# EAGLE library part PCA9306DCTR (library SamacSys_Parts)
2-Bit Bidirectional I2C Bus and SMBus Voltage-Level Shifter Source: Datasheet <http://www.ti.com/lit/gpn/pca9306>
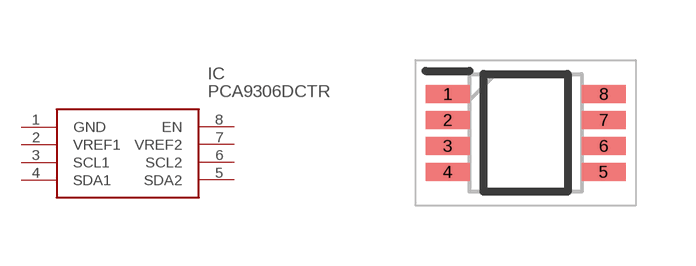
[diagram p102: symbol with the pads of SOP65P400X130-8N; footprint SOP65P400X130-8N]

Designator prefix IC

## PCA9306DCTR (DESCRIPTION: 2-Bit Bidirectional I2C Bus and SMBus Voltage-Level Shifter; HEIGHT: 1.3mm; MANUFACTURER_NAME: Texas Instruments; MANUFACTURER_PART_NUMBER: PCA9306DCTR; MOUSER_PART_NUMBER: 595-PCA9306DCTR; MOUSER_PRICE-STOCK: https://www.mouser.co.uk/ProductDetail/Texas-Instruments/PCA9306DCTR?qs=wgAEGBTxy7mysSrdibj0NQ%3D%3D)  [SOP65P400X130-8N]
1  GND
2  VREF1
3  SCL1
4  SDA1
5  SDA2
6  SCL2
7  VREF2
8  EN

## Footprint SOP65P400X130-8N (pad centres in mm)
DCT0008A-1
smd 1.1 x 0.45: 1 -1.95,0.975; 2 -1.95,0.325; 3 -1.95,-0.325; 4 -1.95,-0.975; 5 1.95,-0.975; 6 1.95,-0.325; 7 1.95,0.325; 8 1.95,0.975